# Altium footprint library J 集成块.PCBLIB: 89 footprints (part 6 of 6)
Each footprint in its own frame and in the unit in brackets; x right, y up, seen from the top. Pads: shape width x height; smd on the part's side, far side on the other; paste and mask are expansions set on the pad; w line width, h text height; cw(c..) or ccw(c..) is an arc to the next point about the centre after c.
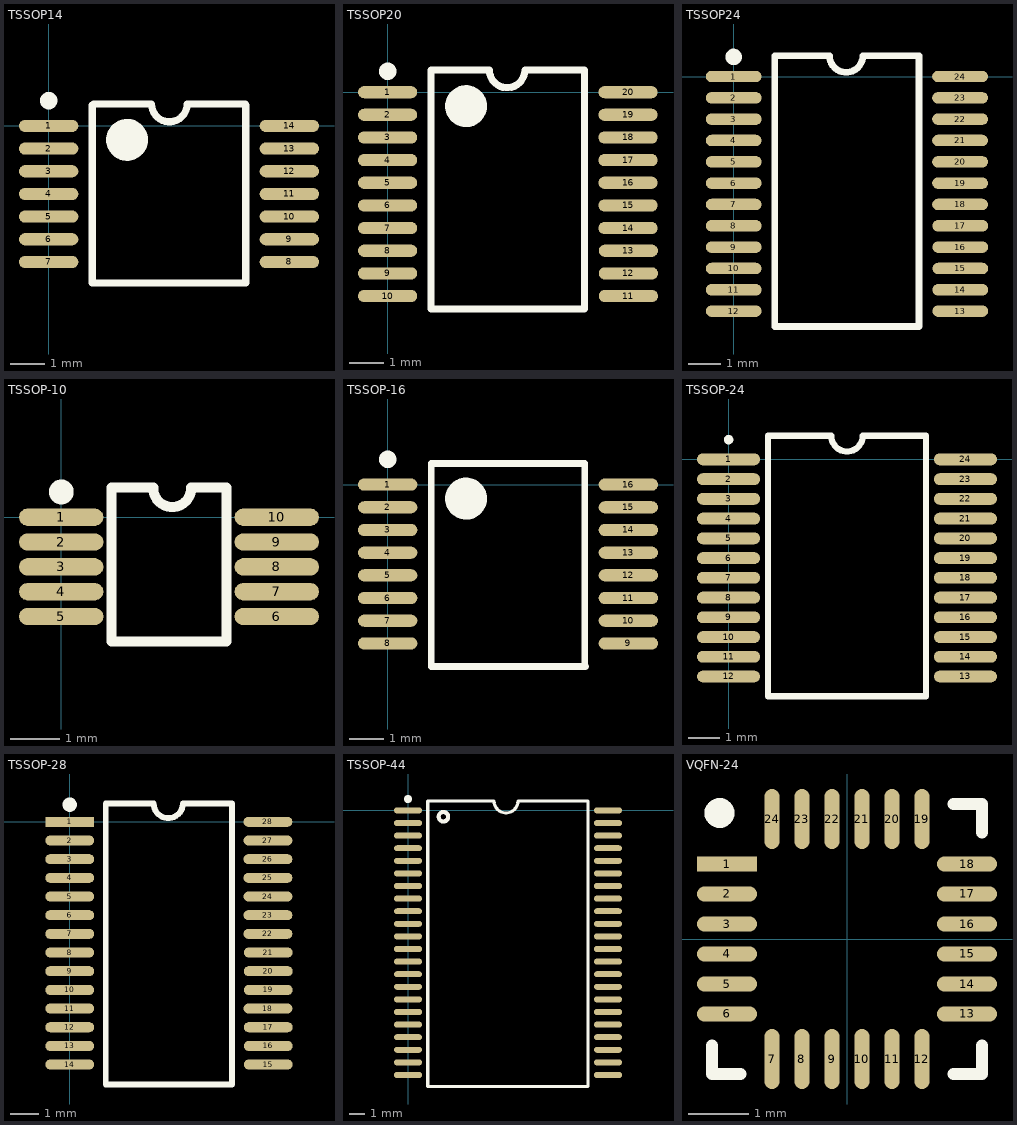
[diagram p5: the footprints below, top view; thin cyan lines are the x and y axes]

## TSSOP14 [mm] "TSOP, 14-Leads, Body 5x4.4mm, Pitch 0.65mm, IPC Medium Density"
height 1.2
pads (14):
  oval 1.7x0.35 smd: 1(0,0) 2(0,-0.65) 3(0,-1.3) 4(0,-1.95) 5(0,-2.6) 6(0,-3.25) 7(0,-3.9) 8(6.9,-3.9) 9(6.9,-3.25) 10(6.9,-2.6) 11(6.9,-1.95) 12(6.9,-1.3) 13(6.9,-0.65) 14(6.9,0)
Top Overlay:
  circle w0.6: c2.25,-0.4 r0.3
  circle w0.25: c0,0.725 r0.125
  lines w0.203: 1.25,0.6 1.25,-4.5 5.65,-4.5 5.65,0.6 ; 1.281,0.625 2.952,0.625 ccw(c3.46,0.625) 3.968,0.625 5.639,0.625

## TSSOP20 [mm] "TSOP, 20-Leads, Body 6.6x4.4mm, Pitch 0.65mm, IPC Medium Density"
height 1.2
pads (20):
  oval 1.7x0.35 smd: 1(0,0) 2(0,-0.65) 3(0,-1.3) 4(0,-1.95) 5(0,-2.6) 6(0,-3.25) 7(0,-3.9) 8(0,-4.55) 9(0,-5.2) 10(0,-5.85) 11(6.909,-5.85) 12(6.909,-5.2) 13(6.909,-4.55) 14(6.9,-3.9) 15(6.9,-3.25) 16(6.9,-2.6) 17(6.9,-1.95) 18(6.9,-1.3) 19(6.9,-0.65) 20(6.9,0)
Top Overlay:
  circle w0.6: c2.25,-0.4 r0.3
  circle w0.25: c0,0.598 r0.125
  lines w0.203: 1.25,0.635 1.25,-6.223 5.65,-6.223 5.65,0.635 ; 1.27,0.635 2.921,0.635 ccw(c3.429,0.635) 3.937,0.635 5.588,0.635

## TSSOP24 [mm] "TSOP, 24-Leads, Pitch 0.65mm"
height 1.2
pads (24):
  oval 1.7x0.35 smd: 1(0,0) 2(0,-0.65) 3(0,-1.3) 4(0,-1.95) 5(0,-2.6) 6(0,-3.25) 7(0,-3.9) 8(0,-4.55) 9(0,-5.2) 10(0,-5.85) 11(0,-6.5) 12(0,-7.15) 13(6.909,-7.15) 14(6.909,-6.5) 15(6.909,-5.85) 16(6.909,-5.2) 17(6.909,-4.55) 18(6.9,-3.9) 19(6.9,-3.25) 20(6.9,-2.6) 21(6.9,-1.95) 22(6.9,-1.3) 23(6.9,-0.65) 24(6.9,0)
Top Overlay:
  circle w0.25: c0,0.598 r0.125
  lines w0.203: 1.25,0.635 1.25,-7.62 5.65,-7.62 5.65,0.635 ; 1.27,0.635 2.921,0.635 ccw(c3.429,0.635) 3.937,0.635 5.588,0.635

## TSSOP-10 [mm] "Pitch 0.5mm"
height 1.1
pads (10):
  oval 1.7x0.35 smd: 1(0,0) 2(0,-0.5) 3(0,-1) 4(0,-1.5) 5(0,-2) 6(4.341,-2) 7(4.341,-1.5) 8(4.341,-1) 9(4.341,-0.5) 10(4.341,0)
Top Overlay:
  circle w0.25: c0.002,0.508 r0.125
  lines w0.203: 1.854,0.584 ccw(c2.235,0.584) 2.616,0.584 ; 1.854,0.6 1.016,0.6 1.016,-2.5 3.327,-2.5 3.327,0.6 2.616,0.6

## TSSOP-16 [mm]
pads (16):
  oval 1.7x0.35 smd: 1(0,0) 2(0,-0.65) 3(0,-1.3) 4(0,-1.95) 5(0,-2.6) 6(0,-3.25) 7(0,-3.9) 8(0,-4.55) 9(6.9,-4.55) 10(6.9,-3.9) 11(6.9,-3.25) 12(6.9,-2.6) 13(6.9,-1.95) 14(6.9,-1.3) 15(6.9,-0.65) 16(6.9,0)
Top Overlay:
  circle w0.25: c0,0.725 r0.125
  circle w0.6: c2.25,-0.4 r0.3
  lines w0.2: 1.25,-5.207 1.25,0.6 5.65,0.6 5.65,-5.207 ; 1.27,-5.207 5.67,-5.207 1.27,-5.207

## TSSOP-24 [mil]
pads (24):
  oval 80x15 smd: 1(0,0) 2(0,-25) 3(0,-50) 4(0,-75) 5(0,-100) 6(0,-125) 7(0,-150) 8(0,-175) 9(0,-200) 10(0,-225) 11(0,-250) 12(0,-275) 13(300,-275) 14(300,-250) 15(300,-225) 16(300,-200) 17(300,-175) 18(300,-150) 19(300,-125) 20(300,-100) 21(300,-75) 22(300,-50) 23(300,-25) 24(300,0)
Top Overlay:
  circle w6: c0.08,25 r3
  lines w8: 50,-300 50,30 130,30 ccw(c150,30) 170,30 250,30 250,-300 50,-300

## TSSOP-28 [mm] "TSSOP, 28-Leads, Pitch 0.65mm"
height 1.2
pads (28):
  rect 1.7x0.35 smd: 1(0,0)
  oval 1.7x0.35 smd: 2(0,-0.65) 3(0,-1.3) 4(0,-1.95) 5(0,-2.6) 6(0,-3.25) 7(0,-3.9) 8(0,-4.55) 9(0,-5.2) 10(0,-5.85) 11(0,-6.5) 12(0,-7.15) 13(0,-7.8) 14(0,-8.45) 15(6.909,-8.45) 16(6.909,-7.8) 17(6.909,-7.15) 18(6.9,-6.5) 19(6.909,-5.85) 20(6.909,-5.2) 21(6.909,-4.55) 22(6.9,-3.9) 23(6.9,-3.25) 24(6.9,-2.6) 25(6.9,-1.95) 26(6.9,-1.3) 27(6.9,-0.65) 28(6.9,0)
Top Overlay:
  circle w0.25: c0,0.598 r0.125
  lines w0.203: 1.25,0.635 1.25,-9.144 5.65,-9.144 5.65,0.635 ; 1.27,0.635 2.921,0.635 ccw(c3.429,0.635) 3.937,0.635 5.588,0.635

## TSSOP-44 [mil] "TSOP, 14-Leads, Body 5x4.4mm, Pitch 0.65mm, IPC Medium Density"
height 47.24
pads (44):
  oval 70x15 smd: 1(0,0) 2(0,-31.5) 3(0,-63) 4(0,-94.5) 5(0,-126) 6(0,-157.5) 7(0,-189) 8(0,-220.5) 9(0,-252) 10(0,-283.5) 11(0,-315) 12(0,-346.5) 13(0,-378) 14(0,-409.5) 15(0,-441) 16(0,-472.5) 17(0,-504) 18(0,-535.5) 19(0,-567) 20(0,-598.5) 21(0,-630) 22(0,-661.5) 23(500,-661.5) 24(500,-630) 25(500,-598.5) 26(500,-567) 27(500,-535.5) 28(500,-504) 29(500,-472.5) 30(500,-441) 31(500,-409.5) 32(500,-378) 33(500,-346.5) 34(500,-315) 35(500,-283.5) 36(500,-252) 37(500,-220.5) 38(500,-189) 39(500,-157.5) 40(500,-126) 41(500,-94.5) 42(500,-63) 43(500,-31.5) 44(500,0)
Top Overlay:
  circle w10: c88.58,-15.75 r11.81
  circle w9.84: c0,28.54 r4.92
  lines w8: 49.21,-690 450,-690 450,23.62 275,23.62 cw(c245,23.62) 215,23.62 49.21,23.62 49.21,-689.21

## VQFN-24 [mm]
pads (24):
  rect 1x0.25 smd: 1(-2,1.25)
  oval 1x0.25 smd: 2(-2,0.75) 3(-2,0.25) 4(-2,-0.25) 5(-2,-0.75) 6(-2,-1.25) 13(2,-1.25) 14(2,-0.75) 15(2,-0.25) 16(2,0.25) 17(2,0.75) 18(2,1.25)
  oval 0.25x1 smd: 7(-1.25,-2) 8(-0.75,-2) 9(-0.25,-2) 10(0.25,-2) 11(0.75,-2) 12(1.25,-2) 19(1.25,2) 20(0.75,2) 21(0.25,2) 22(-0.25,2) 23(-0.75,2) 24(-1.25,2)
Top Overlay:
  circle w0.25: c-2.125,2.1 r0.125
  lines w0.2: -2.25,-1.775 -2.25,-2.25 -1.775,-2.25 ; 1.775,-2.25 2.25,-2.25 2.25,-1.775 ; 1.775,2.25 2.25,2.25 2.25,1.775